# EAGLE library part DAC6571IDBVR (library shepherd)
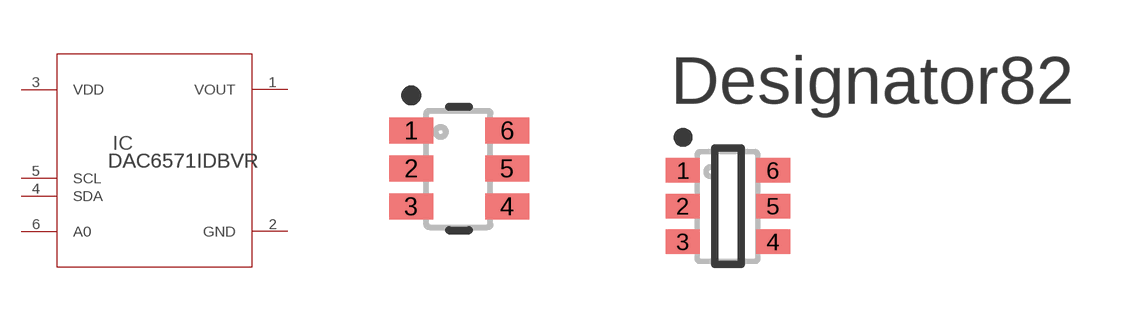
[diagram p24: symbol with the pads of DAC6571IDBVR; footprints DAC6571IDBVR, DBV0006A_L]

Designator prefix IC

## DAC6571IDBVR  [DAC6571IDBVR]
1  VOUT  out
2  GND  pwr
3  VDD  pwr
4  SDA  in
5  SCL  in
6  A0  in

## DAC6571IDBVRDBV0006A_L  [DBV0006A_L]
Pads as for DAC6571IDBVR

## DAC6571IDBVRDBV0006A_M  [DBV0006A_M]
Pads as for DAC6571IDBVR

## Footprint DAC6571IDBVR (pad centres in mm)
smd 1.1 x 0.65: 1 -1.2,0.95; 2 -1.2,0; 3 -1.2,-0.95; 4 1.2,-0.95; 5 1.2,0; 6 1.2,0.95

## Footprint DBV0006A_L (pad centres in mm)
smd 0.9 x 0.65: 1 -1.2,0.95; 2 -1.2,0; 3 -1.2,-0.95; 4 1.2,-0.95; 5 1.2,0; 6 1.2,0.95

## Footprint DBV0006A_M (pad centres in mm)
smd 1.3 x 0.7: 1 -1.2,0.95; 2 -1.2,0; 3 -1.2,-0.95; 4 1.2,-0.95; 5 1.2,0; 6 1.2,0.95